# Altium footprint library Connector.PcbLib: 7 footprints
Each footprint in its own frame and in the unit in brackets; x right, y up, seen from the top. Pads: shape width x height; smd on the part's side, far side on the other; paste and mask are expansions set on the pad; w line width, h text height; cw(c..) or ccw(c..) is an arc to the next point about the centre after c.
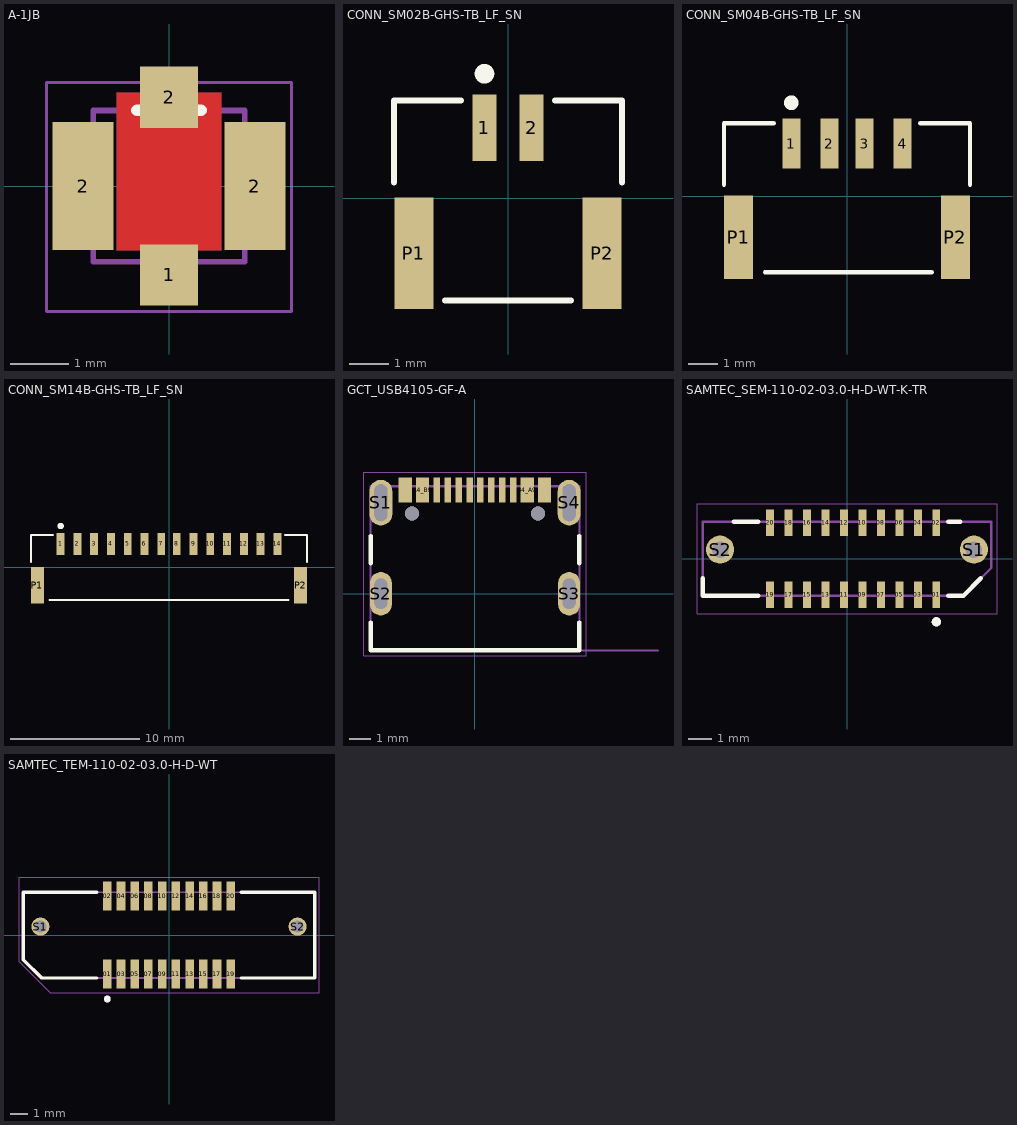
[diagram p0: the footprints below, top view; thin cyan lines are the x and y axes]

## A-1JB [mm]
pads (4):
  rect 1x1.05 smd: 1(0,-1.525) 2(0,1.525)
  rect 1.05x2.2 smd: 2(-1.475,0) 2(1.475,0)
Top Layer:
  pour cut-out: -0.9,-1.1 0.9,-1.1 0.9,1.6 -0.9,1.6
Bottom Layer:
  pour cut-out: -0.9,-1.1 0.9,-1.1 0.9,1.6 -0.9,1.6
Top Overlay:
  lines w0.2: -0.55,1.3 0.55,1.3
Mechanical 13:
  lines w0.1: -1.3,-1.3 -1.3,1.3 1.3,1.3 1.3,-1.3 -1.3,-1.3
Top Courtyard:
  lines w0.05: -2.1,-2.15 -2.1,1.778 2.1,1.778 2.1,-2.15 -2.1,-2.15
  lines w0.1: -0.5,0 0.5,0 ; 0,-0.5 0,0.5
3D body "A-1JB.stp": height 1.25, standoff 0, extent -1.5,-1.55 1.5,1.55

## CONN_SM02B-GHS-TB_LF_SN [mm]
pads (4):
  rect 0.61x1.702 smd paste+0 mask+0: 1(-0.6,1.8) 2(0.6,1.8)
  rect 0.991x2.845 smd: P1(-2.4,-1.4) P2(2.4,-1.4)
Top Overlay:
  circle w0.25: c-0.6,3.175 r0.125
  lines w0.152: -2.9,0.4 -2.9,2.5 -1.2,2.5 ; -1.6,-2.6 1.6,-2.6 ; 1.2,2.5 2.9,2.5 2.9,0.4
3D body "B02MB-GHS-TBT.STEP": height 4.25, standoff -0.65, extent -2.875,-2.125 2.875,1.975

## CONN_SM04B-GHS-TB_LF_SN [mm]
pads (6):
  rect 0.61x1.702 smd paste+0 mask+0: 1(-1.9,1.8) 2(-0.6,1.8) 3(0.6,1.8) 4(1.9,1.8)
  rect 0.991x2.845 smd: P1(-3.7,-1.4) P2(3.7,-1.4)
Top Overlay:
  circle w0.25: c-1.902,3.192 r0.125
  lines w0.152: -4.2,0.4 -4.2,2.5 -2.5,2.5 ; -2.8,-2.6 2.9,-2.6 ; 2.5,2.5 4.2,2.5 4.2,0.4
3D body "B04MB-GHS-TBT.STEP": height 4.25, standoff -0.65, extent -4.15,-2.55 4.1,1.55

## CONN_SM14B-GHS-TB_LF_SN [mm]
pads (16):
  rect 0.61x1.702 smd paste+0 mask+0: 1(-8.4,1.8) 2(-7.1,1.8) 3(-5.8,1.8) 4(-4.5,1.8) 5(-3.2,1.8) 6(-1.9,1.8) 7(-0.6,1.8) 8(0.6,1.8) 9(1.9,1.8) 10(3.2,1.8) 11(4.5,1.8) 12(5.8,1.8) 13(7.1,1.8) 14(8.4,1.8)
  rect 0.991x2.845 smd: P1(-10.2,-1.4) P2(10.2,-1.4)
Top Overlay:
  circle w0.25: c-8.402,3.192 r0.125
  lines w0.152: -10.7,0.4 -10.7,2.5 -9,2.5 ; -9.271,-2.54 9.271,-2.54 ; 9,2.5 10.7,2.5 10.7,0.4

## GCT_USB4105-GF-A [mm]
pads (18):
  rect 0.6x1.15 smd: A1_B12(-3.2,4.755) A4_B9(-2.4,4.755) B1_A12(3.2,4.755) B4_A9(2.4,4.755)
  rect 0.3x1.15 smd: A5(-1.25,4.755) A6(-0.25,4.755) A7(0.25,4.755) A8(1.25,4.755) B5(1.75,4.755) B6(0.75,4.755) B7(-0.75,4.755) B8(-1.75,4.755)
  oval 1.05x2.1 hole 0.6 slot 1.7 at 90 deg: S1(-4.32,4.18) S4(4.32,4.18)
  oval 1x2 hole 0.6 slot 1.4 at 90 deg: S2(-4.32,0) S3(4.32,0)
  round 0.65 hole 0.65 unplated: ""(-2.89,3.68) ""(2.89,3.68)
Top Overlay:
  lines w0.2: -4.79,-1.32 -4.79,-2.6 4.79,-2.6 4.79,-1.32 ; -4.79,1.4 -4.79,2.65 ; 4.79,1.4 4.79,2.65
Mechanical 13:
  lines w0.1: 4.8,-2.6 8.4,-2.6 ; -4.79,-2.6 -4.79,4.93 4.79,4.93 4.79,-2.6 -4.79,-2.6
  text "PCB EDGE" at 5.4,-2.5 h0.41
Top Courtyard:
  lines w0.05: -5.1,-2.85 5.1,-2.85 5.1,5.58 -5.1,5.58 -5.1,-2.85
3D body "USB4105-GF-A--3DModel-STEP-56544.STEP": height 3.31, standoff -0.85, extent -4.79,-2.6 4.79,5.11

## SAMTEC_SEM-110-02-03.0-H-D-WT-K-TR [mm]
pads (22):
  rect 0.34x1.14 smd: 01(3.87,-1.56) 02(3.87,1.56) 03(3.07,-1.56) 04(3.07,1.56) 05(2.27,-1.56) 06(2.27,1.56) 07(1.47,-1.56) 08(1.47,1.56) 09(0.67,-1.56) 10(0.67,1.56) 11(-0.13,-1.56) 12(-0.13,1.56) 13(-0.93,-1.56) 14(-0.93,1.56) 15(-1.73,-1.56) 16(-1.73,1.56) 17(-2.53,-1.56) 18(-2.53,1.56) 19(-3.33,-1.56) 20(-3.33,1.56)
  round 1.218 hole 0.71: S1(5.5,0.4) S2(-5.5,0.4)
Top Overlay:
  circle w0.2: c3.87,-2.73 r0.1
  lines w0.2: -6.25,-0.85 -6.25,-1.6 -3.85,-1.6 ; -4.9,1.6 -3.85,1.6 ; 4.39,-1.6 5.05,-1.6 5.8,-0.85 ; 4.39,1.6 4.9,1.6
Top Paste:
  circle w0.89: c-5.5,0.4 r0.445
  circle w0.89: c5.5,0.4 r0.445
Top 3D Body:
  circle w0.2: c3.87,-2.73 r0.1
  lines w0.1: -6.25,-1.6 -6.25,1.6 6.25,1.6 6.25,-0.4 5.05,-1.6 -6.25,-1.6
Top Courtyard:
  lines w0.05: -6.5,-2.38 -6.5,2.38 6.5,2.38 6.5,-2.38 -6.5,-2.38
3D body "SEM-110-02-03_0-H-D-WT-K-TR.stp": height 4.5, standoff -1.89, extent -6.223,-1.875 6.277,1.875

## SAMTEC_TEM-110-02-03.0-H-D-WT [mm]
pads (22):
  rect 0.5x1.69 smd: 01(-3.6,-2.28) 02(-3.6,2.28) 03(-2.8,-2.28) 04(-2.8,2.28) 05(-2,-2.28) 06(-2,2.28) 07(-1.2,-2.28) 08(-1.2,2.28) 09(-0.4,-2.28) 10(-0.4,2.28) 11(0.4,-2.28) 12(0.4,2.28) 13(1.2,-2.28) 14(1.2,2.28) 15(2,-2.28) 16(2,2.28) 17(2.8,-2.28) 18(2.8,2.28) 19(3.6,-2.28) 20(3.6,2.28)
  round 1.06 hole 0.71: S1(-7.5,0.5) S2(7.5,0.5)
Top Overlay:
  circle w0.2: c-3.6,-3.725 r0.1
  lines w0.2: -4.2,-2.5 -7.435,-2.5 -8.5,-1.435 -8.5,2.5 -4.2,2.5 ; 4.2,-2.5 8.5,-2.5 8.5,2.5 4.2,2.5
Top Paste:
  circle w0.89: c7.5,0.5 r0.445
  circle w0.89: c-7.5,0.5 r0.445
Top 3D Body:
  circle w0.2: c-3.6,-3.725 r0.1
  lines w0.1: -8.5,-1.435 -7.435,-2.5 8.5,-2.5 8.5,2.5 -8.5,2.5 -8.5,-1.435
Top Courtyard:
  lines w0.05: -8.75,-1.539 -6.914,-3.375 8.75,-3.375 8.75,3.375 -8.75,3.375 -8.75,-1.539
3D body "TEM-110-02-03.0-H-D-WT-K.stp": height 5.51, standoff -1.84, extent -8.491,-2.75 8.509,2.75